# EAGLE library part THAT1646 (library THAT1646)
THAT 1646 Balanced Line Driver (DIP) Datasheet: http://www.thatcorp.com/datashts/THAT_1606-1646_Datasheet.pdf
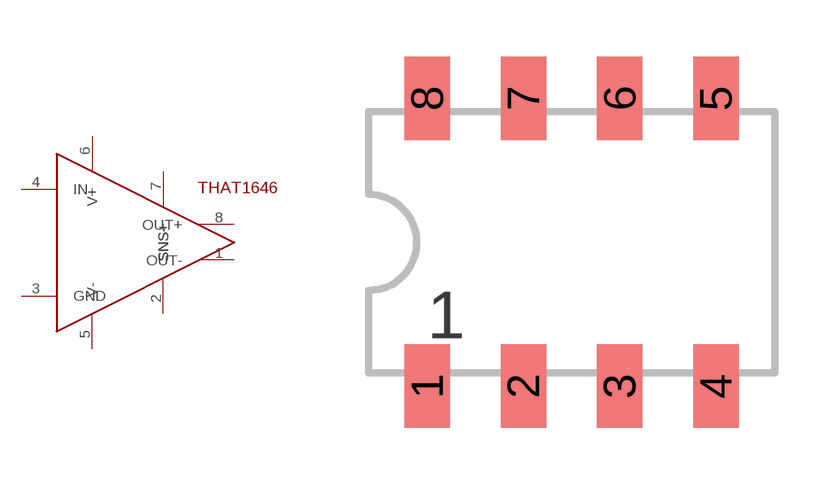
[diagram p0: symbol with the pads of THAT1646; footprint THAT1646]

Designator prefix -

## THAT1646  [THAT1646]
1  OUT-  out
2  SNS-
3  GND
4  IN  in
5  V-  pwr
6  V+  pwr
7  SNS+
8  OUT+  out

## Footprint THAT1646 (pad centres in mm)
THAT 1646 Balanced Line Driver (DIP) Datasheet: http://www.thatcorp.com/datashts/THAT_1606-1646_Datasheet.pdf
smd 1.2 x 2.2: 1 -3.81,-3.8; 2 -1.27,-3.8; 3 1.27,-3.8; 4 3.81,-3.8; 5 3.81,3.8; 6 1.27,3.8; 7 -1.27,3.8; 8 -3.81,3.8